# Altium schematic symbol library Sophisti.SCHLIB: 11 symbols
Pins are listed as number, name and electrical type; pins without a type are passive.

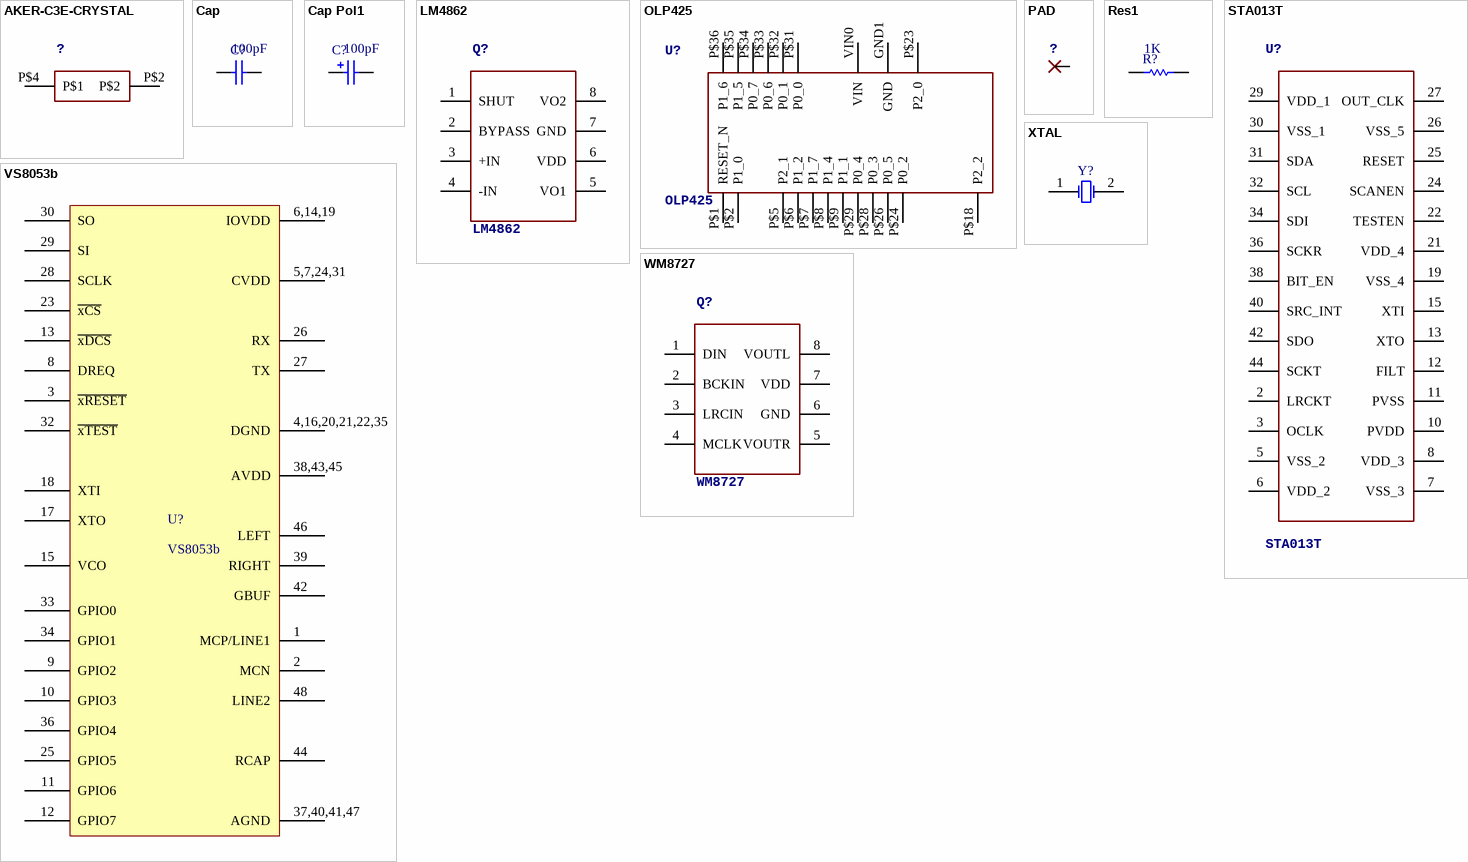
[diagram p0: symbols AKER-C3E-CRYSTAL to XTAL]

## AKER-C3E-CRYSTAL
designator ?
footprint 2.7X3.4
pins: P$2, P$4 P$1

## Cap
designator C?  value 100pF
Capacitor; Published: 8-Jun-2000; LatestRevisionDate: 17-Jul-2002; LatestRevisionNote: Re-released for DXP Platform.; PackageReference: RAD-0.3; Publisher: Altium Limited; PackageDescription: Radial Cap, Thru-Hole; 2 Leads; 0.3 in Pin Spacing
footprint CAPC1608X06L (Chip Capacitor, 2-Leads, Body 1.60x0.80mm, IPC High Density)
pins: 1, 2

## Cap Pol1
designator C?  value 100pF
Polarized Capacitor (Radial); Published: 8-Jun-2000; LatestRevisionDate: 17-Jul-2002; LatestRevisionNote: Re-released for DXP Platform.; PackageReference: RB7.6-15; Publisher: Altium Limited; PackageDescription: Polarized Capacitor (Radial); 2 Leads
footprint CAPCP1608X06N (Chip Capacitor, 2-Leads, Body 1.60x0.80mm, IPC Medium Density)
footprint CAPCP1608X06L (Chip Capacitor, 2-Leads, Body 1,60x0,80mm, IPC High Density)
pins: 1, 2
1 alternate drawing of the same symbol

## LM4862
designator Q?
Amplifier
footprint SOIC127P600X265-8N (SOIC, 8-Leads, Body 4.90x3.90mm, Pitch 1.27mm, IPC Medium Density)
pins: 1 SHUT, 2 BYPASS, 3 +IN, 4 -IN, 5 VO1, 6 VDD, 7 GND, 8 VO2

## OLP425
designator U?
ConnectBlue BLE module
footprint OLP425
pins: GND1 GND, P$1 RESET_N, P$2 P1_0, P$5 P2_1, P$6 P1_2, P$7 P1_7, P$8 P1_4, P$9 P1_1, P$18 P2_2, P$23 P2_0, P$24 P0_2, P$26 P0_5, P$28 P0_3, P$29 P0_4, P$31 P0_0, P$32 P0_1, P$33 P0_6, P$34 P0_7, P$35 P1_5, P$36 P1_6, VIN0 VIN

## PAD
designator ?
footprint PAD-SMD_0.05
footprint PAD-1.27x2.54
footprint HOLE-30mil
pins: P$1 P

## Res1
designator R?  value 1K
Resistor; Published: 8-Jun-2000; LatestRevisionDate: 17-Jul-2002; LatestRevisionNote: Re-released for DXP Platform.; PackageReference: AXIAL-0.3; Publisher: Altium Limited; PackageDescription: Axial Device, Thru-Hole; 2 Leads; 0.3 in Pin Spacing
footprint RESC1608X06L (Chip Resistor, 2-Leads, Body 1.60x0.80mm, IPC High Density)
pins: 1, 2

## STA013T
designator U?
MP3 decoder
footprint TQFP44
footprint QFP80P1200X1200X245-44N (QFP, 44-Leads, Body 10.00x10.00mm, Pitch 0.80mm, IPC Medium Density)
pins: 2 LRCKT, 3 OCLK, 5 VSS_2, 6 VDD_2, 7 VSS_3, 8 VDD_3, 10 PVDD, 11 PVSS, 12 FILT, 13 XTO, 15 XTI, 19 VSS_4, 21 VDD_4, 22 TESTEN, 24 SCANEN, 25 RESET, 26 VSS_5, 27 OUT_CLK, 29 VDD_1, 30 VSS_1, 31 SDA, 32 SCL, 34 SDI, 36 SCKR, 38 BIT_EN, 40 SRC_INT, 42 SDO, 44 SCKT

## VS8053b
designator U?
OGG decoder
footprint LQFP48 (LQFP, 48-Leads, Body 12,00x12,00mm, Pitch 0,80mm, IPC Medium Density)
pins: 1 MCP/LINE1, 2 MCN, 3 ~{xRESET}, 4,16,20,21,22,35 DGND, 5,7,24,31 CVDD, 6,14,19 IOVDD, 8 DREQ, 9 GPIO2, 10 GPIO3, 11 GPIO6, 12 GPIO7, 13 ~{xDCS}, 15 VCO, 17 XTO, 18 XTI, 23 ~{xCS}, 25 GPIO5, 26 RX, 27 TX, 28 SCLK, 29 SI, 30 SO, 32 ~{xTEST}, 33 GPIO0, 34 GPIO1, 36 GPIO4, 37,40,41,47 AGND, 38,43,45 AVDD, 39 RIGHT, 42 GBUF, 44 RCAP, 46 LEFT, 48 LINE2

## WM8727
designator Q?
Stereo DAC
footprint SOIC127P600X265-8N (SOIC, 8-Leads, Body 4.90x3.90mm, Pitch 1.27mm, IPC Medium Density)
pins: 1 DIN, 2 BCKIN, 3 LRCIN, 4 MCLK, 5 VOUTR, 6 GND, 7 VDD, 8 VOUTL

## XTAL
designator Y?
Crystal Oscillator; Published: 8-Jun-2000; LatestRevisionDate: 17-Jul-2002; LatestRevisionNote: Re-released for DXP Platform.; PackageReference: R38; Publisher: Altium Limited; PackageDescription: Crystal, Thru-Hole; 2 Leads; Body 3.1 x 8.2 mm (Dia.xH)
footprint 2.7X3.4
pins: 1 OSC1, 2 OSC2